# Altium schematic symbol library aistlab.SchLib: 24 symbols
Pins are listed as number, name and electrical type; pins without a type are passive.

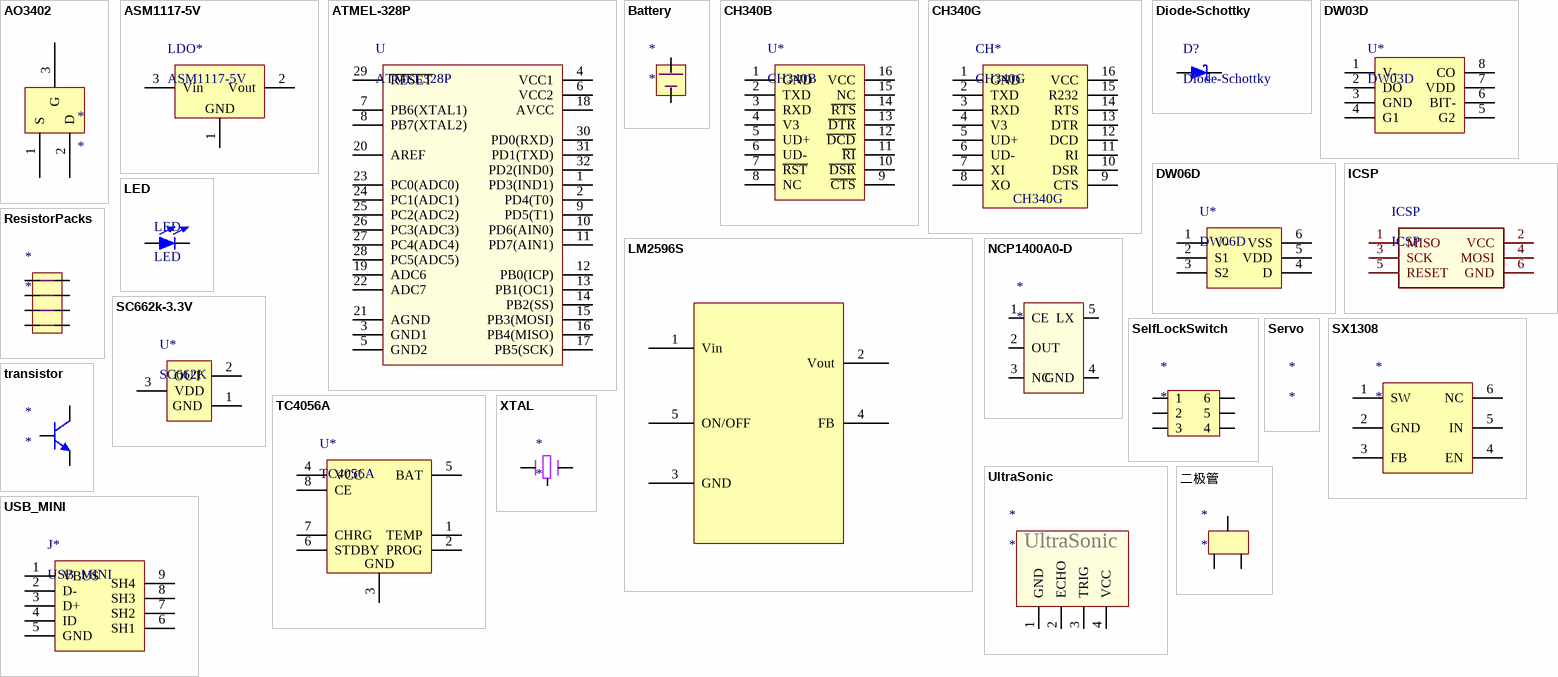
[diagram p0: symbols AO3402 to 二极管]

## AO3402
designator *
footprint SOT95P245X110-3N (SOT23, 3-Leads, Body 2.90x2.45mm, Pitch 0.95mm, IPC Medium Density)
pins: 1 S, 2 D, 3 G

## ASM1117-5V
designator LDO*
footprint SOT-223 (ASM1117,)
pins: 1, 2 Vout, 3 Vin
text: GND

## ATMEL-328P
designator U, comment ATMEL328P
footprint TQFP 32 (ATMEL 328P)
pins: 1 PD3(IND1) (oc), 2 PD4(T0) (oc), 3 GND1 (oc), 4 VCC1 (power), 5 GND2 (oc), 6 VCC2 (power), 7 PB6(XTAL1) (oc), 8 PB7(XTAL2) (oc), 9 PD5(T1) (oc), 10 PD6(AIN0) (oc), 11 PD7(AIN1) (oc), 12 PB0(ICP) (oc), 13 PB1(OC1) (oc), 14 PB2(SS) (oc), 15 PB3(MOSI) (oc), 16 PB4(MISO) (oc), 17 PB5(SCK) (oc), 18 AVCC (power), 19 ADC6 (oc), 20 AREF (oc), 21 AGND (oc), 22 ADC7 (oc), 23 PC0(ADC0) (oc), 24 PC1(ADC1) (oc), 25 PC2(ADC2) (oc), 26 PC3(ADC3) (oc), 27 PC4(ADC4) (oc), 28 PC5(ADC5) (oc), 29 ~{RESET} (oc), 30 PD0(RXD) (oc), 31 PD1(TXD) (oc), 32 PD2(IND0) (oc)

## Battery
designator *
footprint LI
pins: 1 +, 2

## CH340B
designator U*
usb to uart
footprint SOP16 (CH340G)
pins: 1 GND (oc), 2 TXD (oc), 3 RXD (oc), 4 V3 (power), 5 UD+ (oc), 6 UD- (oc), 7 ~{RST} (oc), 8 NC, 9 ~{CTS} (oc), 10 ~{DSR} (oc), 11 ~{RI} (oc), 12 ~{DCD} (oc), 13 ~{DTR} (oc), 14 ~{RTS} (oc), 15 NC (oc), 16 VCC (power)

## CH340G
designator CH*
footprint SOP16 (CH340G)
pins: 1 GND, 2 TXD, 3 RXD, 4 V3, 5 UD+, 6 UD-, 7 XI, 8 XO, 9 CTS, 10 DSR, 11 RI, 12 DCD, 13 DTR, 14 RTS, 15 R232, 16 VCC

## Diode-Schottky
designator D?
footprint Diode-Schottky (Molded Diode, 2-Leads, Body 4.25x2.67mm, IPC Medium Density)
pins: 1, 2

## DW03D
designator U*
footprint SOP-8 (TC4056A 充电芯片)
pins: 1 V- (power), 2 DO, 3 GND, 4 G1, 5 G2, 6 BIT-, 7 VDD, 8 CO

## DW06D
designator U*
锂电池保护芯片
footprint SOT-23-6 (SX1308)
pins: 1 V-, 2 S1, 3 S2, 4 D, 5 VDD, 6 VSS

## ICSP
designator ICSP
footprint DIP6
pins: 1 MISO (oc) "1", 2 VCC "2", 3 SCK (oc) "3", 4 MOSI (oc) "4", 5 RESET (oc) "5", 6 GND (oc) "6"

## LED
designator LED
footprint LED_0603 (Chip Diode, 2-Leads, Body 1.60x0.80mm, IPC Medium Density)
footprint LED_0805 (Chip LED  Body 2.0x1.2mm, IPC Medium Density)
pins: 1, 2

## LM2596S
designator LM2596S, comment 3.3v
footprint LM2596S (3.3v)
pins: 1 Vin, 2 Vout, 3 GND, 4 FB, 5 ON/OFF

## NCP1400A0-D
designator *
pins: 1 CE (oc), 2 OUT (oc), 3 NC (oc), 4 GND (oc), 5 LX (oc)

## ResistorPacks
designator *
footprint 0402_Rx4
pins: 1, 2, 3, 4, 5, 6, 7, 8

## SC662k-3.3V
designator U*, comment SC662K
3.3V 稳压芯片
footprint SOT-23
pins: 1 GND (oc), 2 OUT "3.3V 输出", 3 VDD "电源输入"

## SelfLockSwitch
designator *
footprint KEY_ZS_8*8
pins: 1, 2, 3, 4, 5, 6

## Servo
designator *

## SX1308
designator *
footprint SOT-6 (SX1308)
pins: 1 SW, 2 GND, 3 FB, 4 EN, 5 IN, 6 NC

## TC4056A
designator U*
锂电池充电
footprint SOP-8 (TC4056A 充电芯片)
pins: 1 TEMP, 2 PROG, 3 GND, 4 VCC, 5 BAT, 6 STDBY, 7 CHRG, 8 CE

## transistor
designator *
footprint Model Name (Footprint not found)
footprint SOT-23
pins: 1 B, 2 E, 3 C

## UltraSonic
designator *
footprint DIP4 (Footprint not found)
pins: 1 GND (oc), 2 ECHO (oc), 3 TRIG (oc), 4 VCC (oc)

## USB_MINI
designator J*
footprint MICRO_USB
pins: 1 VBUS, 2 D-, 3 D+, 4 ID, 5 GND, 6 SH1, 7 SH2, 8 SH3, 9 SH4

## XTAL
designator *
footprint XTAL (Chip Array, ConvexE, 6-Leads, Pitch 1.20mm,  Body 3.20x1.50mm,  IPC Medium Density)
pins: 1, 2, 3

## 二极管
designator *
footprint SOT-23
pins: 1, 2, 3